# Altium footprint library SOIC127P600X175-9N.PcbLib: 1 footprints
Each footprint in its own frame and in the unit in brackets; x right, y up, seen from the top. Pads: shape width x height; smd on the part's side, far side on the other; paste and mask are expansions set on the pad; w line width, h text height; cw(c..) or ccw(c..) is an arc to the next point about the centre after c.
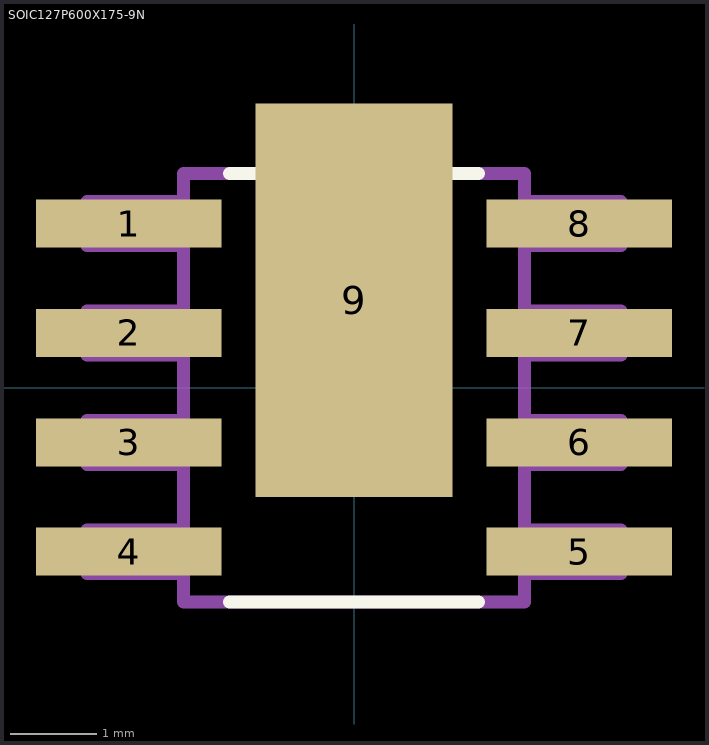
[diagram p0: the footprint, top view; thin cyan lines are the x and y axes]

## SOIC127P600X175-9N [mil]
pads (9):
  rect 85x22 smd: 1(-103,75) 2(-103,25) 3(-103,-25) 4(-103,-75) 5(103,-75) 6(103,-25) 7(103,25) 8(103,75)
  rect 90x180 smd: 9(0,40)
Top Overlay:
  lines w0: -12,98.08 ccw(c0,98.5) 12,98.92
  lines w6: -57,-98 57,-98 ; -57,98 -12,98 57,98
Mechanical 13:
  lines w0: -12,98.08 ccw(c0,98.5) 12,98.92
  lines w6: -122,-85 -122,-65 -78,-65 -78,-85 -122,-85 ; -122,-35 -122,-15 -78,-15 -78,-35 -122,-35 ; -122,15 -122,35 -78,35 -78,15 -122,15 ; -122,65 -122,85 -78,85 -78,65 -122,65 ; -78,-98 78,-98 78,98 -12,98 -78,98 -78,-98 ; 78,-85 78,-65 122,-65 122,-85 78,-85 ; 78,-35 78,-15 122,-15 122,-35 78,-35 ; 78,15 78,35 122,35 122,15 78,15 ; 78,65 78,85 122,85 122,65 78,65
3D body "ADP7104ARDZ-5.0-R7.stp": height 68.9, standoff 0, extent -118.11,-96.45 118.11,96.46